# Altium footprint library ON Semiconductor Footprints.PcbLib: 123 footprints (part 1 of 8)
Each footprint in its own frame and in the unit in brackets; x right, y up, seen from the top. Pads: shape width x height; smd on the part's side, far side on the other; paste and mask are expansions set on the pad; w line width, h text height; cw(c..) or ccw(c..) is an arc to the next point about the centre after c.
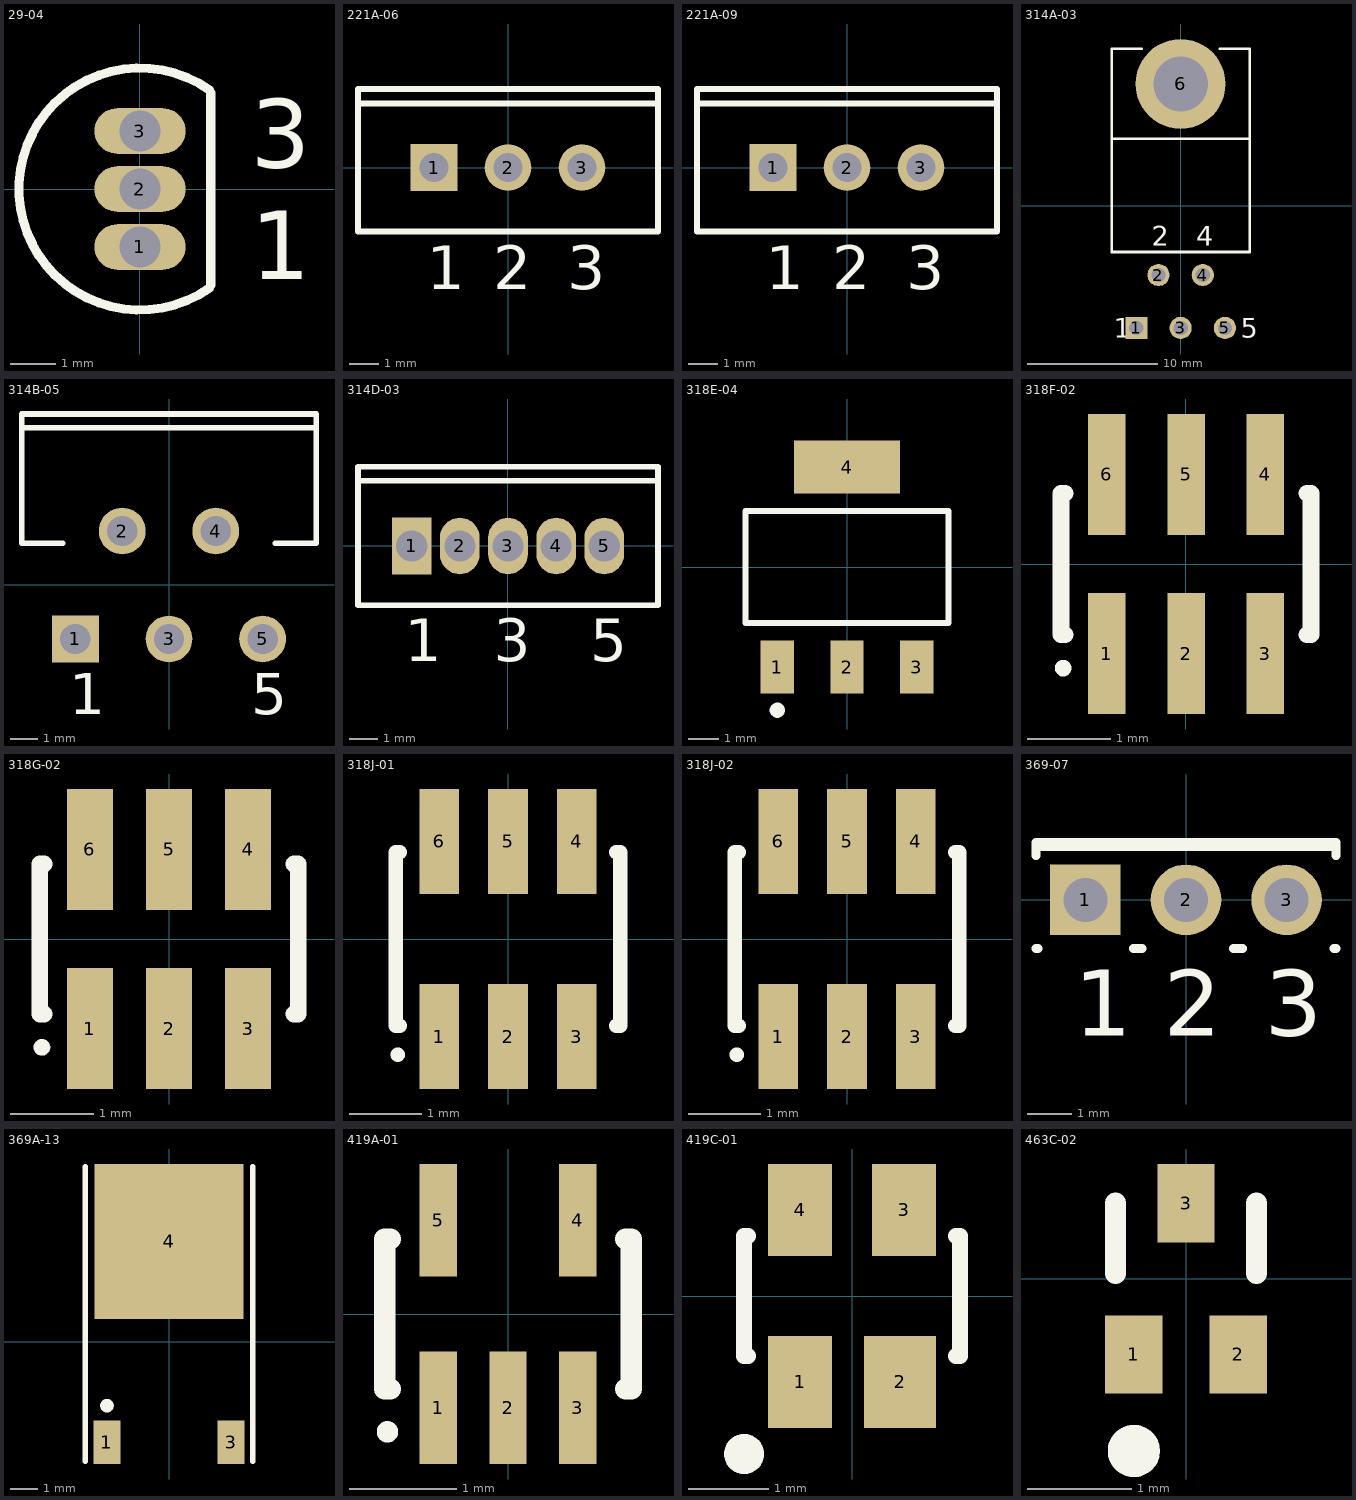
[diagram p0: the footprints below, top view; thin cyan lines are the x and y axes]

## 29-04 [mm] "TO, Flat Index; 3 In-Line, Axial Leads; Body Dia. 4.8mm; Leads 0.48 x 0.51 mm (max)"
height 5.33
pads (3):
  oval 2x1 hole 0.9: 1(0,-1.27) 2(0,0) 3(0,1.27)
Top Overlay:
  lines w0.2: 1.52,-2.171 cw(c0,0) 1.52,2.171 ; 1.55,-2.1 1.55,2.1
  text "1" at 2.421,-1.979 h1.5
  text "3" at 2.421,0.467 h1.5

## 221A-06 [mm] "TO, Thru-Hole, Vertical, Heatsink Mounted; 3 In-Line Leads; Pitch 2.54 mm"
height 19.7
pads (3):
  rect 1.6x1.6 hole 1: 1(-2.54,0)
  round 1.6 hole 1: 2(0,0) 3(2.54,0)
Top Overlay:
  lines w0.2: -5.15,2.2 5.15,2.2 ; -5.15,-2.2 5.15,-2.2 5.15,2.7 -5.15,2.7 -5.15,-2.2
  text "1" at -2.79,-4.175 h1.5
  text "2" at -0.5,-4.175 h1.5
  text "3" at 2.04,-4.175 h1.5

## 221A-09 [mm] "TO, Thru-Hole, Vertical, Heatsink Mounted; 3 In-Line Leads; Pitch 2.54 mm"
height 19.7
pads (3):
  rect 1.6x1.6 hole 1: 1(-2.54,0)
  round 1.6 hole 1: 2(0,0) 3(2.54,0)
Top Overlay:
  lines w0.2: -5.15,2.2 5.15,2.2 ; -5.15,-2.2 -5.15,2.7 5.15,2.7 5.15,-2.2 -5.15,-2.2
  text "3" at 2.04,-4.175 h1.5
  text "2" at -0.5,-4.175 h1.5
  text "1" at -2.79,-4.175 h1.5

## 314A-03 [mm] "TO, Thru-Hole, Horizontal, Heatsink Mounted; 5 Bent Staggered Leads; Pitch 1.7 mm"
height 4.6
pads (6):
  rect 1.7x1.7 hole 1.1: 1(-3.4,-9.365)
  round 1.7 hole 1.1: 2(-1.7,-5.305) 3(0,-9.365) 4(1.7,-5.305) 5(3.4,-9.365)
  round 6.9 hole 4.2: 6(0,9.365)
Top Overlay:
  lines w0.2: -5.3,5.165 5.3,5.165 ; -3,12.065 -5.3,12.065 -5.3,-3.535 5.3,-3.535 5.3,12.065 3,12.065
  text "2" at -2.2,-3.06 h1.5
  text "4" at 1.2,-3.06 h1.5
  text "5" at 4.625,-10.115 h1.5
  text "1" at -5.125,-10.115 h1.5

## 314B-05 [mm] "TO, Thru-Hole, Vertical, Heatsink Mounted; 5 Bent Staggered Leads; Pitch 1.7mm"
height 22.1
pads (5):
  rect 1.7x1.7 hole 1.1: 1(-3.4,-1.96)
  round 1.7 hole 1.1: 2(-1.7,1.96) 3(0,-1.96) 4(1.7,1.96) 5(3.4,-1.96)
Top Overlay:
  lines w0.2: -5.35,5.71 5.35,5.71 ; -3.854,1.51 -5.35,1.51 -5.35,6.21 5.35,6.21 5.35,1.51 3.854,1.51
  text "5" at 2.98,-4.685 h1.5
  text "1" at -3.62,-4.685 h1.5

## 314D-03 [mm] "TO, Thru-Hole, Vertical, Heatsink Mounted; 5 In-Line Leads; Pitch 1.70 mm"
height 15.6
pads (5):
  rect 1.4x2 hole 1.1: 1(-3.4,0)
  oval 1.4x2 hole 1.1: 2(-1.7,0) 3(0,0) 4(1.7,0) 5(3.4,0)
Top Overlay:
  lines w0.2: -5.3,2.3 5.3,2.3 ; -5.3,-2.1 -5.3,2.8 5.3,2.8 5.3,-2.1 -5.3,-2.1
  text "5" at 2.9,-4.075 h1.5
  text "3" at -0.5,-4.075 h1.5
  text "1" at -3.65,-4.075 h1.5

## 318E-04 [mm] "SOT-223/SC-73; 4 Leads; Body 6.7 x 7.3 mm, inc. leads (LxW max)"
height 1.75
pads (4):
  rect 1.1x1.75 smd: 1(-2.3,-3.3) 2(0,-3.3) 3(2.3,-3.3)
  rect 3.5x1.75 smd: 4(0,3.3)
Top Overlay:
  circle w0.25: c-2.3,-4.725 r0.125
  lines w0.2: -3.35,-1.85 3.35,-1.85 3.35,1.85 -3.35,1.85 -3.35,-1.85

## 318F-02 [mm] "SOT-457/SC-74; 6 Leads; Body 3.1 x 3 mm, inc. leads (LxW max)"
height 1.3
pads (6):
  rect 0.45x1.45 smd: 1(-0.95,-1.075) 2(0,-1.075) 3(0.95,-1.075) 4(0.95,1.075) 5(0,1.075) 6(-0.95,1.075)
Top Overlay:
  circle w0.1: c-1.475,-1.25 r0.05
  lines w0.2: -1.45,-0.85 -1.5,-0.85 -1.5,0.85 -1.45,0.85 ; 1.45,-0.85 1.5,-0.85 1.5,0.85 1.45,0.85

## 318G-02 [mm] "SOT-457/SC-74; 6 Leads; Body 3.1 x 3 mm, inc. leads (LxW max)"
height 1.1
pads (6):
  rect 0.55x1.45 smd: 1(-0.95,-1.075) 2(0,-1.075) 3(0.95,-1.075) 4(0.95,1.075) 5(0,1.075) 6(-0.95,1.075)
Top Overlay:
  circle w0.1: c-1.525,-1.3 r0.05
  lines w0.2: -1.5,-0.9 -1.55,-0.9 -1.55,0.9 -1.5,0.9 ; 1.5,-0.9 1.55,-0.9 1.55,0.9 1.5,0.9

## 318J-01 [mm] "Small Outline; 6 Leads; Body 3.6 x 3.6 mm, inc. leads (LxW max)"
height 1.4
pads (6):
  rect 0.55x1.45 smd: 1(-0.95,-1.35) 2(0,-1.35) 3(0.95,-1.35) 4(0.95,1.35) 5(0,1.35) 6(-0.95,1.35)
Top Overlay:
  circle w0.1: c-1.525,-1.6 r0.05
  lines w0.2: -1.5,-1.2 -1.55,-1.2 -1.55,1.2 -1.5,1.2 ; 1.5,-1.2 1.55,-1.2 1.55,1.2 1.5,1.2

## 318J-02 [mm] "Small Outline; 6 Leads; Body 3.6 x 3.6 mm, inc. leads (LxW max)"
height 1.4
pads (6):
  rect 0.55x1.45 smd: 1(-0.95,-1.35) 2(0,-1.35) 3(0.95,-1.35) 4(0.95,1.35) 5(0,1.35) 6(-0.95,1.35)
Top Overlay:
  circle w0.1: c-1.525,-1.6 r0.05
  lines w0.2: -1.5,-1.2 -1.55,-1.2 -1.55,1.2 -1.5,1.2 ; 1.5,-1.2 1.55,-1.2 1.55,1.2 1.5,1.2

## 369-07 [mm] "TO, Thru-Hole, Vertical, Heatsink Mounted; 3 In-Line Leads; Pitch 2.28 mm"
height 9.8
pads (3):
  rect 1.6x1.6 hole 1: 1(-2.28,0)
  round 1.6 hole 1: 2(0,0) 3(2.28,0)
Top Overlay:
  lines w0.2: -3.4,-1.1 -3.35,-1.1 ; -3.4,1 -3.4,1.3 3.4,1.3 3.4,1 ; -3.4,1.21 3.4,1.21 ; -1.19,-1.1 -0.99,-1.1 ; 1.08,-1.1 1.28,-1.1 ; 3.35,-1.1 3.4,-1.1
  text "1" at -2.53,-3.075 h1.5
  text "2" at -0.5,-3.075 h1.5
  text "3" at 1.78,-3.075 h1.5

## 369A-13 [mm] "D-PAK/TO-252-AA; 3 Leads (1 Cropped); Body 10.3 (inc. leads) x 6.7 mm (LxW max)"
height 2.38
pads (3):
  rect 1x1.6 smd: 1(-2.285,-3.7) 3(2.285,-3.7)
  rect 5.5x5.7 smd: 4(0,3.7)
Top Overlay:
  circle w0.25: c-2.285,-2.35 r0.125
  lines w0.2: -3.085,-4.4 -3.085,6.45 ; 3.085,-4.4 3.085,6.45

## 419A-01 [mm] "SOT-353/SC-88A; 5 Leads; Body 2.2 x 2.2 mm, inc. leads (LxW max)"
height 1.1
pads (5):
  rect 0.35x1.05 smd: 1(-0.65,-0.875) 2(0,-0.875) 3(0.65,-0.875) 4(0.65,0.875) 5(-0.65,0.875)
Top Overlay:
  circle w0.1: c-1.125,-1.1 r0.05
  lines w0.2: -1.1,-0.7 -1.15,-0.7 -1.15,0.7 -1.1,0.7 ; 1.1,-0.7 1.15,-0.7 1.15,0.7 1.1,0.7

## 419C-01 [mm] "SOT-343; 4 Leads; Body 2.2 x 2.4 mm, inc. leads (LxW max)"
height 1.1
pads (4):
  rect 0.8x1.15 smd: 1(-0.65,-1.075) 3(0.65,1.075) 4(-0.65,1.075)
  rect 0.9x1.15 smd: 2(0.6,-1.075)
Top Overlay:
  circle w0.25: c-1.35,-1.975 r0.125
  lines w0.2: -1.3,-0.75 -1.35,-0.75 -1.35,0.75 -1.3,0.75 ; 1.3,-0.75 1.35,-0.75 1.35,0.75 1.3,0.75

## 463C-02 [mm] "SC-89; 3 Flat Leads; Body 1.6 x 1.6 x 0.7 mm, inc leads (LxWxH typ)"
height 0.8
pads (3):
  rect 0.55x0.75 smd: 1(-0.5,-0.725) 2(0.5,-0.725) 3(0,0.725)
Top Overlay:
  circle w0.25: c-0.5,-1.65 r0.125
  lines w0.2: -0.676,0.05 -0.676,0.725 ; 0.675,0.05 0.675,0.725